# Altium footprint library port.PcbLib: 36 footprints (part 1 of 3)
Each footprint in its own frame and in the unit in brackets; x right, y up, seen from the top. Pads: shape width x height; smd on the part's side, far side on the other; paste and mask are expansions set on the pad; w line width, h text height; cw(c..) or ccw(c..) is an arc to the next point about the centre after c.
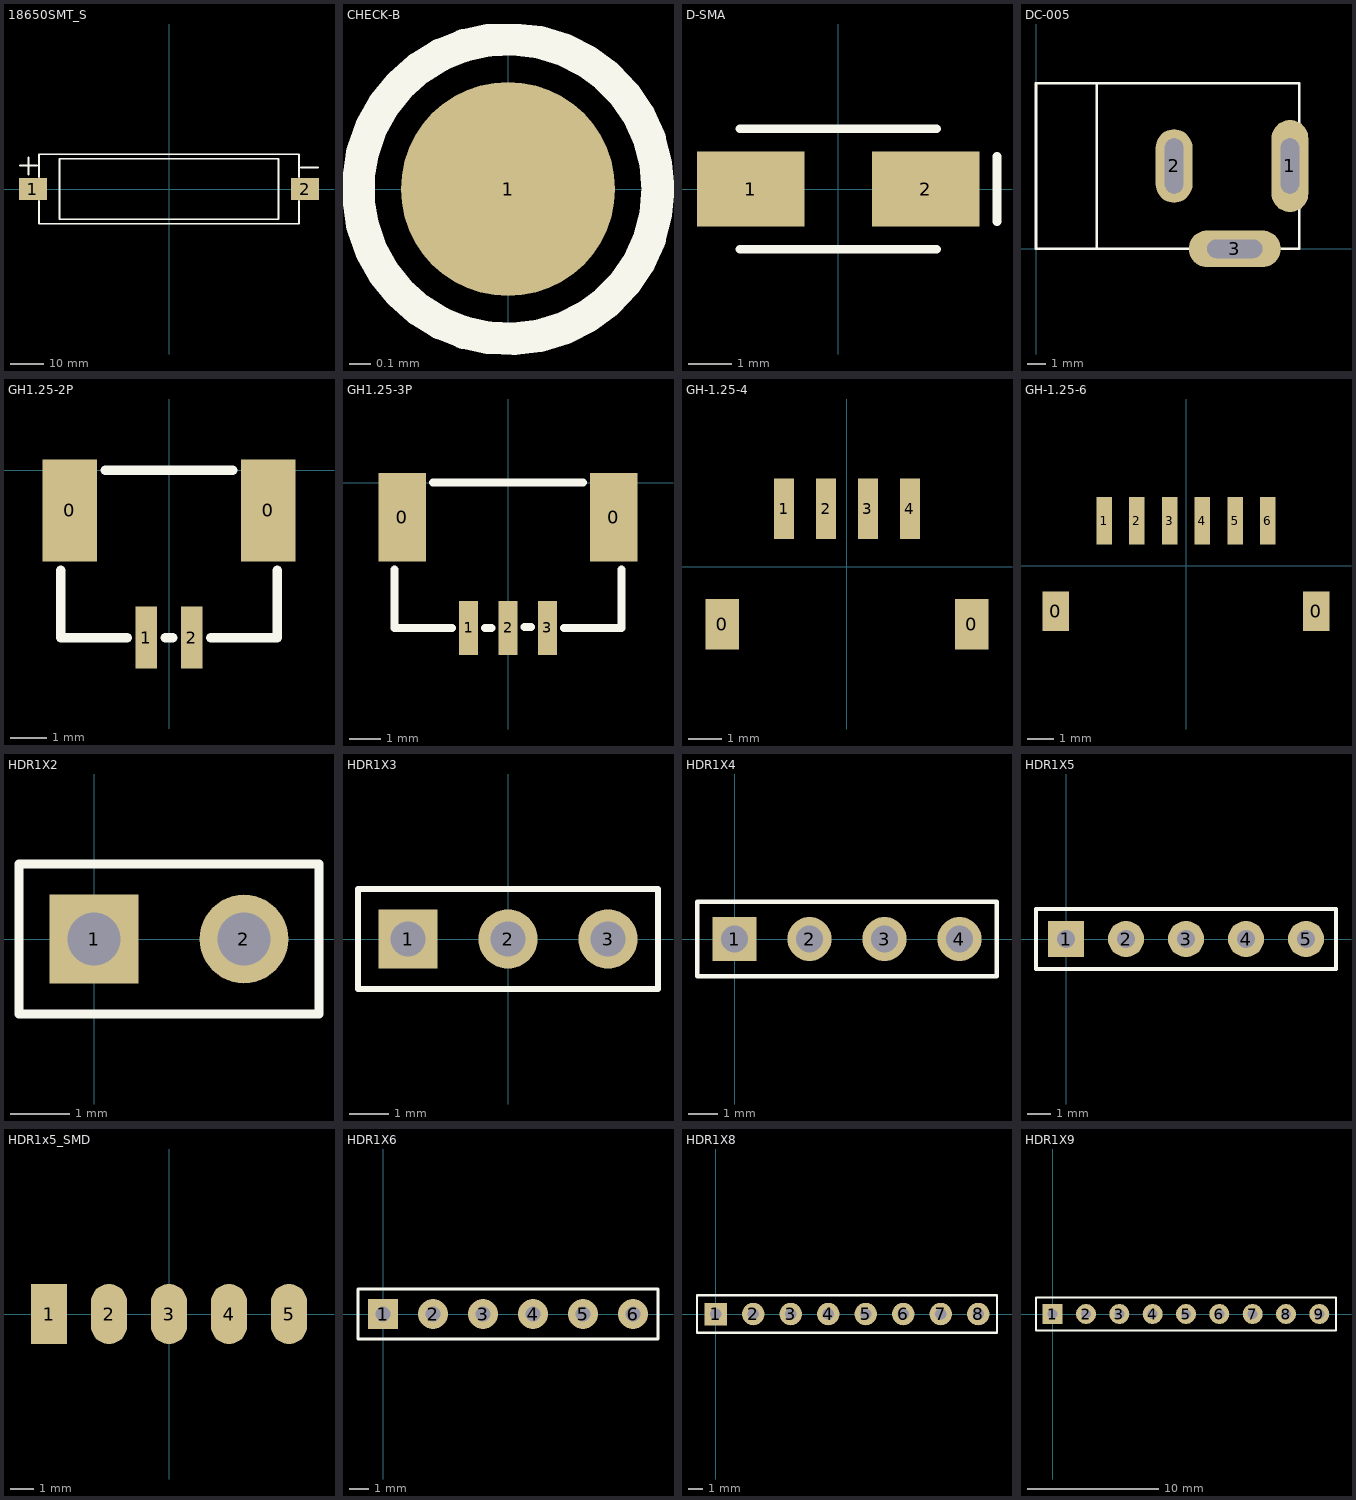
[diagram p0: the footprints below, top view; thin cyan lines are the x and y axes]

## 18650SMT_S [mm]
pads (2):
  rect 8.3x6.4 smd mask+0.07: 1(-40.35,0) 2(40.35,0)
Top Overlay:
  lines w0.508: -44.196,6.985 -39.116,6.985 ; -41.656,4.318 -41.656,9.398 ; -38.55,-3.5 -38.55,-10.35 38.55,-10.35 38.55,-3.5 ; -38.55,3.5 -38.55,10.35 38.55,10.35 38.55,3.5 ; 39.116,6.35 44.196,6.35 ; -32.5,-9 -32.5,9 32.5,9 32.5,-9 -32.5,-9

## CHECK-B [mm] "测试点"
height 1.45
pads (1):
  round 1 smd: 1(0,0)
Top Overlay:
  circle w0.152: c0,0 r0.7

## D-SMA [mm] "贴片二极管"
height 2.54
pads (2):
  rect 2.5x1.75 smd: 1(-2.032,0) 2(2.032,0)
Top Overlay:
  lines w0.2: -2.286,-1.397 2.286,-1.397 ; -2.286,1.397 2.286,1.397 ; 3.683,-0.762 3.683,0.762

## DC-005 [mm]
pads (3):
  oval 2x5 hole 1 slot 3 at 90 deg: 1(13.8,4.5)
  oval 2x4 hole 1 slot 3 at 90 deg: 2(7.5,4.5)
  oval 5x2 hole 1 slot 3 at 0 deg: 3(10.8,0)
Top Overlay:
  lines w0.152: 3.3,0 3.3,9 ; 0,0 14.3,0 14.3,9 0,9 0,0

## GH1.25-2P [mm]
height 4.05
pads (4):
  rect 1.5x2.8 smd: 0(-2.725,-1.1) 0(2.725,-1.1)
  rect 0.6x1.7 smd: 1(-0.625,-4.6) 2(0.625,-4.6)
Top Overlay:
  lines w0.254: -2.975,-2.75 -2.975,-4.6 -1.15,-4.6 ; -1.75,0 1.75,0 ; -0.1,-4.6 0.1,-4.6 ; 1.15,-4.6 2.975,-4.6 2.975,-2.75

## GH1.25-3P [mm]
height 4.05
pads (5):
  rect 1.5x2.8 smd: 0(-3.35,-1.1) 0(3.35,-1.1)
  rect 0.6x1.7 smd: 1(-1.25,-4.6) 2(0,-4.6) 3(1.25,-4.6)
Top Overlay:
  lines w0.254: -3.6,-2.75 -3.6,-4.6 -1.775,-4.6 ; -2.375,0 2.375,0 ; -0.725,-4.6 -0.525,-4.6 ; 0.525,-4.572 0.725,-4.572 ; 1.775,-4.6 3.6,-4.6 3.6,-2.75

## GH-1.25-4 [mm]
pads (6):
  rect 1x1.5 smd: 0(-3.725,-1.725) 0(3.725,-1.725)
  rect 0.6x1.8 smd: 1(-1.875,1.725) 2(-0.625,1.725) 3(0.625,1.725) 4(1.875,1.725)

## GH-1.25-6 [mm]
pads (8):
  rect 1x1.5 smd: 0(-4.975,-1.725) 0(4.975,-1.725)
  rect 0.6x1.8 smd: 1(-3.125,1.725) 2(-1.875,1.725) 3(-0.625,1.725) 4(0.625,1.725) 5(1.875,1.725) 6(3.125,1.725)

## HDR1X2 [mm] "Connector; Header; 2 Position"
pads (2):
  rect 1.5x1.5 hole 0.9: 1(0,0)
  round 1.5 hole 0.9: 2(2.54,0)
Top Overlay:
  lines w0.152: -1.27,-1.27 3.81,-1.27 3.81,1.27 -1.27,1.27 -1.27,-1.27

## HDR1X3 [mm] "Connector; Header; 3 Position"
pads (3):
  rect 1.5x1.5 hole 0.9: 1(-2.54,0)
  round 1.5 hole 0.9: 2(0,0) 3(2.54,0)
Top Overlay:
  lines w0.152: -3.81,-1.27 3.81,-1.27 3.81,1.27 -3.81,1.27 -3.81,-1.27

## HDR1X4 [mm] "Connector; Header; 4 Position"
pads (4):
  rect 1.5x1.5 hole 0.9: 1(0,0)
  round 1.5 hole 0.9: 2(2.54,0) 3(5.08,0) 4(7.62,0)
Top Overlay:
  lines w0.152: -1.27,-1.27 -1.27,1.27 8.89,1.27 8.89,-1.27 -1.27,-1.27

## HDR1X5 [mil]
pads (5):
  rect 60x60 hole 30: 1(0,0)
  round 60 hole 30: 2(100,0) 3(200,0) 4(300,0) 5(400,0)
Top Overlay:
  lines w6: -50,-50 450,-50 450,50 -50,50 -50,-50

## HDR1x5_SMD [mil]
pads (5):
  rect 60x100 smd: 1(-200,0)
  oval 60x100 smd: 2(-100,0) 3(0,0) 4(100,0) 5(200,0)

## HDR1X6 [mil]
pads (6):
  rect 60x60 hole 30: 1(0,0)
  round 60 hole 30: 2(100,0) 3(200,0) 4(300,0) 5(400,0) 6(500,0)
Top Overlay:
  lines w6: -50,-50 550,-50 550,50 -50,50 -50,-50

## HDR1X8 [mil]
pads (8):
  rect 60x60 hole 30: 1(0,0)
  round 60 hole 30: 2(100,0) 3(200,0) 4(300,0) 5(400,0) 6(500,0) 7(600,0) 8(700,0)
Top Overlay:
  lines w6: -50,-50 750,-50 750,50 -50,50 -50,-50

## HDR1X9 [mil]
pads (9):
  rect 60x60 hole 30: 1(0,0)
  round 60 hole 30: 2(100,0) 3(200,0) 4(300,0) 5(400,0) 6(500,0) 7(600,0) 8(700,0) 9(800,0)
Top Overlay:
  lines w6: -50,-50 850,-50 850,50 -50,50 -50,-50